# Altium schematic symbol library SCH - POWER - SWITCHMODE - TI TPS62865RQY.SchLib: 1 symbol
Pins are listed as number, name and electrical type; pins without a type are passive.

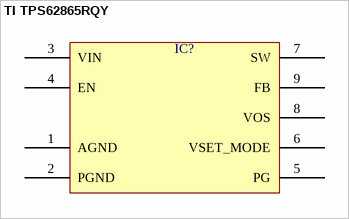
[diagram p0: symbol TI TPS62865RQY]

## TI TPS62865RQY
designator IC?  (value not drawn)
pins: 1 AGND, 2 PGND, 3 VIN, 4 EN, 5 PG, 6 VSET_MODE, 7 SW, 8 VOS, 9 FB